# Altium footprint library ADS8686S.PcbLib: 3 footprints
Each footprint in its own frame and in the unit in brackets; x right, y up, seen from the top. Pads: shape width x height; smd on the part's side, far side on the other; paste and mask are expansions set on the pad; w line width, h text height; cw(c..) or ccw(c..) is an arc to the next point about the centre after c.
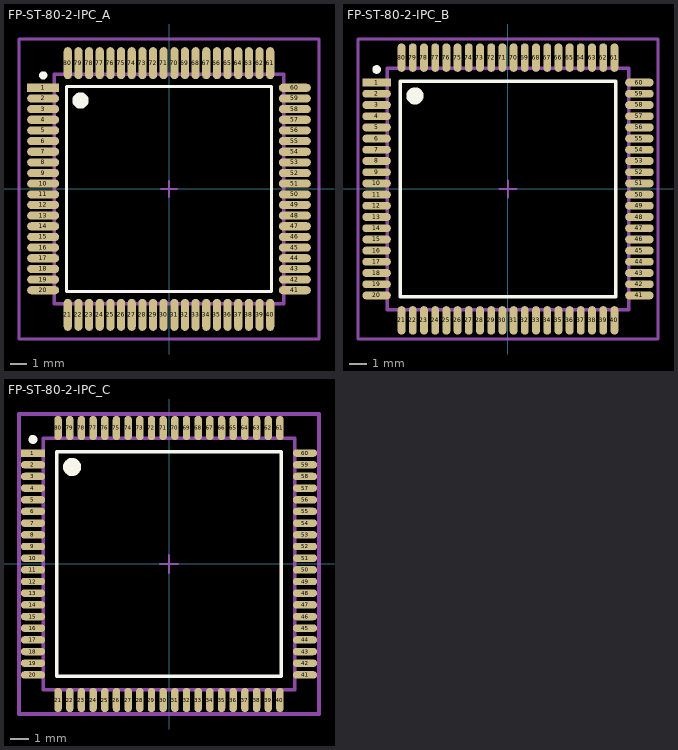
[diagram p0: the footprints below, top view; thin cyan lines are the x and y axes]

## FP-ST-80-2-IPC_A [mm]
pads (80):
  rect 1.955x0.495 smd paste+0 mask+0: 1(-7.675,6.175)
  rrect100% 1.955x0.495 smd paste+0 mask+0: 2(-7.675,5.525) 3(-7.675,4.875) 4(-7.675,4.225) 5(-7.675,3.575) 6(-7.675,2.925) 7(-7.675,2.275) 8(-7.675,1.625) 9(-7.675,0.975) 10(-7.675,0.325) 11(-7.675,-0.325) 12(-7.675,-0.975) 13(-7.675,-1.625) 14(-7.675,-2.275) 15(-7.675,-2.925) 16(-7.675,-3.575) 17(-7.675,-4.225) 18(-7.675,-4.875) 19(-7.675,-5.525) 20(-7.675,-6.175) 41(7.675,-6.175) 42(7.675,-5.525) 43(7.675,-4.875) 44(7.675,-4.225) 45(7.675,-3.575) 46(7.675,-2.925) 47(7.675,-2.275) 48(7.675,-1.625) 49(7.675,-0.975) 50(7.675,-0.325) 51(7.675,0.325) 52(7.675,0.975) 53(7.675,1.625) 54(7.675,2.275) 55(7.675,2.925) 56(7.675,3.575) 57(7.675,4.225) 58(7.675,4.875) 59(7.675,5.525) 60(7.675,6.175)
  rrect100% 0.495x1.955 smd paste+0 mask+0: 21(-6.175,-7.675) 22(-5.525,-7.675) 23(-4.875,-7.675) 24(-4.225,-7.675) 25(-3.575,-7.675) 26(-2.925,-7.675) 27(-2.275,-7.675) 28(-1.625,-7.675) 29(-0.975,-7.675) 30(-0.325,-7.675) 31(0.325,-7.675) 32(0.975,-7.675) 33(1.625,-7.675) 34(2.275,-7.675) 35(2.925,-7.675) 36(3.575,-7.675) 37(4.225,-7.675) 38(4.875,-7.675) 39(5.525,-7.675) 40(6.175,-7.675) 61(6.175,7.675) 62(5.525,7.675) 63(4.875,7.675) 64(4.225,7.675) 65(3.575,7.675) 66(2.925,7.675) 67(2.275,7.675) 68(1.625,7.675) 69(0.975,7.675) 70(0.325,7.675) 71(-0.325,7.675) 72(-0.975,7.675) 73(-1.625,7.675) 74(-2.275,7.675) 75(-2.925,7.675) 76(-3.575,7.675) 77(-4.225,7.675) 78(-4.875,7.675) 79(-5.525,7.675) 80(-6.175,7.675)
Top Overlay:
  circle w0.25: c-7.675,6.935 r0.125
  circle w0.5: c-5.4,5.4 r0.25
  lines w0.2: -6.25,-6.25 6.25,-6.25 6.25,6.25 -6.25,6.25 -6.25,-6.25
Top Assembly:
  lines w0.2: -9.153,-9.153 9.153,-9.153 9.153,9.153 -9.153,9.153 -9.153,-9.153
  text ".Designator" at 0,-0.001 h1
Top 3D Body:
  lines w0.2: -7,-7 7,-7 7,7 -7,7 -7,-7
Top Courtyard:
  lines w0.2: -9.153,-9.153 9.153,-9.153 9.153,9.153 -9.153,9.153 -9.153,-9.153
Top Component Center:
  lines w0.1: -0.5,0 0.5,0 ; 0,-0.5 0,0.5
3D body "IC_Analog_Devices_AD7616BSTZ_eec.STEP": height 0.25, standoff 0, extent -9.153,-9.153 9.153,9.153

## FP-ST-80-2-IPC_B [mm]
pads (80):
  rect 1.655x0.455 smd paste+0 mask+0: 1(-7.625,6.175)
  rrect100% 1.655x0.455 smd paste+0 mask+0: 2(-7.625,5.525) 3(-7.625,4.875) 4(-7.625,4.225) 5(-7.625,3.575) 6(-7.625,2.925) 7(-7.625,2.275) 8(-7.625,1.625) 9(-7.625,0.975) 10(-7.625,0.325) 11(-7.625,-0.325) 12(-7.625,-0.975) 13(-7.625,-1.625) 14(-7.625,-2.275) 15(-7.625,-2.925) 16(-7.625,-3.575) 17(-7.625,-4.225) 18(-7.625,-4.875) 19(-7.625,-5.525) 20(-7.625,-6.175) 41(7.625,-6.175) 42(7.625,-5.525) 43(7.625,-4.875) 44(7.625,-4.225) 45(7.625,-3.575) 46(7.625,-2.925) 47(7.625,-2.275) 48(7.625,-1.625) 49(7.625,-0.975) 50(7.625,-0.325) 51(7.625,0.325) 52(7.625,0.975) 53(7.625,1.625) 54(7.625,2.275) 55(7.625,2.925) 56(7.625,3.575) 57(7.625,4.225) 58(7.625,4.875) 59(7.625,5.525) 60(7.625,6.175)
  rrect100% 0.455x1.655 smd paste+0 mask+0: 21(-6.175,-7.625) 22(-5.525,-7.625) 23(-4.875,-7.625) 24(-4.225,-7.625) 25(-3.575,-7.625) 26(-2.925,-7.625) 27(-2.275,-7.625) 28(-1.625,-7.625) 29(-0.975,-7.625) 30(-0.325,-7.625) 31(0.325,-7.625) 32(0.975,-7.625) 33(1.625,-7.625) 34(2.275,-7.625) 35(2.925,-7.625) 36(3.575,-7.625) 37(4.225,-7.625) 38(4.875,-7.625) 39(5.525,-7.625) 40(6.175,-7.625) 61(6.175,7.625) 62(5.525,7.625) 63(4.875,7.625) 64(4.225,7.625) 65(3.575,7.625) 66(2.925,7.625) 67(2.275,7.625) 68(1.625,7.625) 69(0.975,7.625) 70(0.325,7.625) 71(-0.325,7.625) 72(-0.975,7.625) 73(-1.625,7.625) 74(-2.275,7.625) 75(-2.925,7.625) 76(-3.575,7.625) 77(-4.225,7.625) 78(-4.875,7.625) 79(-5.525,7.625) 80(-6.175,7.625)
Top Overlay:
  circle w0.25: c-7.625,6.935 r0.125
  circle w0.5: c-5.4,5.4 r0.25
  lines w0.2: -6.25,-6.25 6.25,-6.25 6.25,6.25 -6.25,6.25 -6.25,-6.25
Top Assembly:
  lines w0.2: -8.703,-8.703 8.703,-8.703 8.703,8.703 -8.703,8.703 -8.703,-8.703
  text ".Designator" at 0,-0.001 h1
Top 3D Body:
  lines w0.2: -7,-7 7,-7 7,7 -7,7 -7,-7
Top Courtyard:
  lines w0.2: -8.703,-8.703 8.703,-8.703 8.703,8.703 -8.703,8.703 -8.703,-8.703
Top Component Center:
  lines w0.1: -0.5,0 0.5,0 ; 0,-0.5 0,0.5
3D body "IC_Analog_Devices_AD7616BSTZ_eec.STEP": height 0.25, standoff 0, extent -8.703,-8.703 8.703,8.703

## FP-ST-80-2-IPC_C [mm]
pads (80):
  rect 1.355x0.415 smd paste+0 mask+0: 1(-7.575,6.175)
  rrect100% 1.355x0.415 smd paste+0 mask+0: 2(-7.575,5.525) 3(-7.575,4.875) 4(-7.575,4.225) 5(-7.575,3.575) 6(-7.575,2.925) 7(-7.575,2.275) 8(-7.575,1.625) 9(-7.575,0.975) 10(-7.575,0.325) 11(-7.575,-0.325) 12(-7.575,-0.975) 13(-7.575,-1.625) 14(-7.575,-2.275) 15(-7.575,-2.925) 16(-7.575,-3.575) 17(-7.575,-4.225) 18(-7.575,-4.875) 19(-7.575,-5.525) 20(-7.575,-6.175) 41(7.575,-6.175) 42(7.575,-5.525) 43(7.575,-4.875) 44(7.575,-4.225) 45(7.575,-3.575) 46(7.575,-2.925) 47(7.575,-2.275) 48(7.575,-1.625) 49(7.575,-0.975) 50(7.575,-0.325) 51(7.575,0.325) 52(7.575,0.975) 53(7.575,1.625) 54(7.575,2.275) 55(7.575,2.925) 56(7.575,3.575) 57(7.575,4.225) 58(7.575,4.875) 59(7.575,5.525) 60(7.575,6.175)
  rrect100% 0.415x1.355 smd paste+0 mask+0: 21(-6.175,-7.575) 22(-5.525,-7.575) 23(-4.875,-7.575) 24(-4.225,-7.575) 25(-3.575,-7.575) 26(-2.925,-7.575) 27(-2.275,-7.575) 28(-1.625,-7.575) 29(-0.975,-7.575) 30(-0.325,-7.575) 31(0.325,-7.575) 32(0.975,-7.575) 33(1.625,-7.575) 34(2.275,-7.575) 35(2.925,-7.575) 36(3.575,-7.575) 37(4.225,-7.575) 38(4.875,-7.575) 39(5.525,-7.575) 40(6.175,-7.575) 61(6.175,7.575) 62(5.525,7.575) 63(4.875,7.575) 64(4.225,7.575) 65(3.575,7.575) 66(2.925,7.575) 67(2.275,7.575) 68(1.625,7.575) 69(0.975,7.575) 70(0.325,7.575) 71(-0.325,7.575) 72(-0.975,7.575) 73(-1.625,7.575) 74(-2.275,7.575) 75(-2.925,7.575) 76(-3.575,7.575) 77(-4.225,7.575) 78(-4.875,7.575) 79(-5.525,7.575) 80(-6.175,7.575)
Top Overlay:
  circle w0.25: c-7.575,6.935 r0.125
  circle w0.5: c-5.4,5.4 r0.25
  lines w0.2: -6.25,-6.25 6.25,-6.25 6.25,6.25 -6.25,6.25 -6.25,-6.25
Top Assembly:
  lines w0.2: -8.353,-8.353 8.353,-8.353 8.353,8.353 -8.353,8.353 -8.353,-8.353
  text ".Designator" at 0,-0.001 h1
Top 3D Body:
  lines w0.2: -7,-7 7,-7 7,7 -7,7 -7,-7
Top Courtyard:
  lines w0.2: -8.353,-8.353 8.353,-8.353 8.353,8.353 -8.353,8.353 -8.353,-8.353
Top Component Center:
  lines w0.1: -0.5,0 0.5,0 ; 0,-0.5 0,0.5
3D body "IC_Analog_Devices_AD7616BSTZ_eec.STEP": height 0.25, standoff 0, extent -8.353,-8.353 8.353,8.353